# EAGLE library part S1G12-JUMP (library TABOR K1)
12-pinovy radový konektor - kolík : kolik= 0,6x0,6 mm /raster 2,54 mm/, diera s pokovenim = 0,9 mm, vrtanie = 1,1 mm
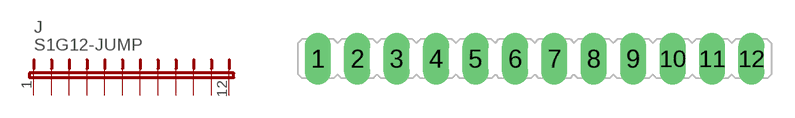
[diagram p52: symbol with the pads of S1G12; footprint S1G12]

Designator prefix J

## S1G12-JUMPN  [S1G12]
1  1  pas
2  2  pas
3  3  pas
4  4  pas
5  5  pas
6  6  pas
7  7  pas
8  8  pas
9  9  pas
10  10  pas
11  11  pas
12  12  pas

## Footprint S1G12 (pad centres in mm)
12-pinovy radovy konektor - kolik : kolik= 0,6x0,6mm, diera s pokovenim = 0,9mm, vrtanie = 1,1mm
drill 1.092 pad 1.676 long: 1 -13.97,0; 2 -11.43,0; 3 -8.89,0; 4 -6.35,0; 5 -3.81,0; 6 -1.27,0; 7 1.27,0; 8 3.81,0; 9 6.35,0; 10 8.89,0; 11 11.43,0; 12 13.97,0